# EAGLE library part MCT6(2)H (library matlock)
Vishay MCT6H, MCT62H Optocoupler, Phototransistor Output, Dual Channel
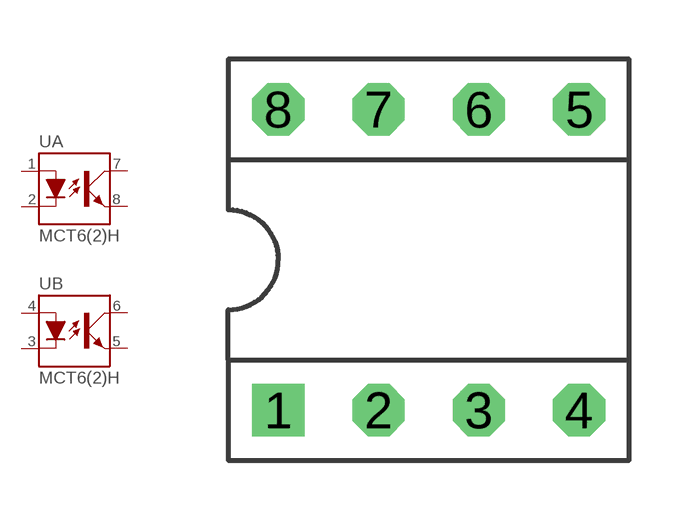
[diagram p4: symbol with the pads of DIP8; footprint DIP8]

Designator prefix U; gates A=OPTOCOUPLER B=OPTOCOUPLER

## MCT6(2)H  [DIP8]
1  A:A  pas
2  A:C  pas
3  B:C  pas
4  B:A  pas
5  B:EMIT  pas
6  B:COL  pas
7  A:COL  pas
8  A:EMIT  pas

## Footprint DIP8 (pad centres in mm)
drill 0.813 square: 1 -3.81,-3.81
drill 0.813 octagon: 2 -1.27,-3.81; 3 1.27,-3.81; 4 3.81,-3.81; 5 3.81,3.81; 6 1.27,3.81; 7 -1.27,3.81; 8 -3.81,3.81